# EAGLE library part ACORN-CART-EDGE (library 8Bit_Parts)
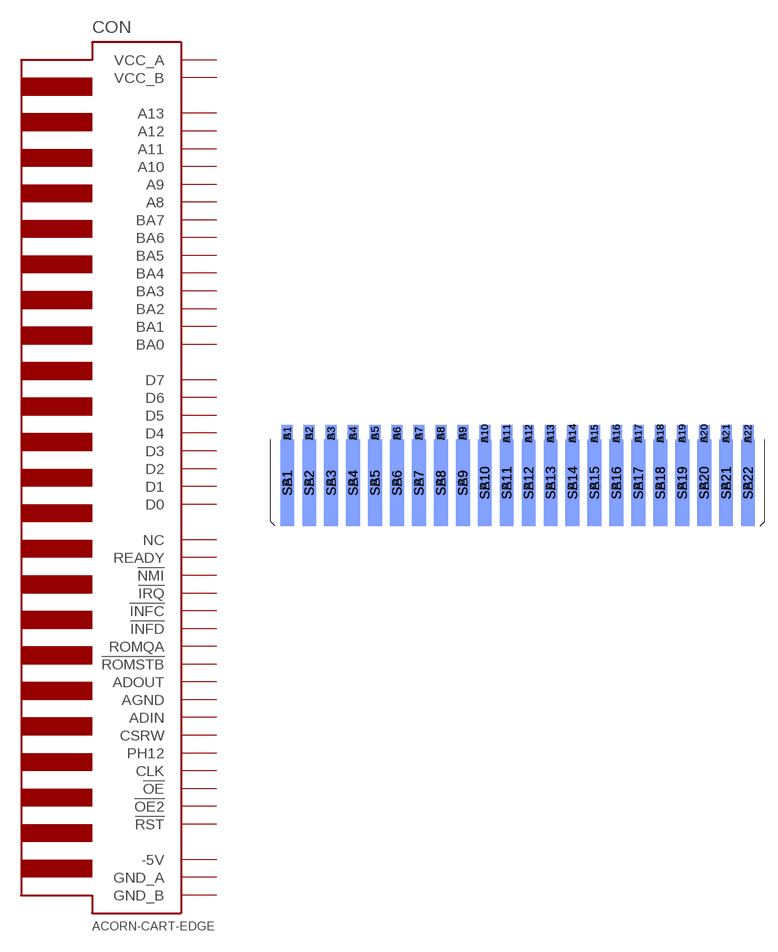
[diagram p13: symbol with the pads of 2X22_EDGE_2.54; footprint 2X22_EDGE_2.54]

Designator prefix CON

## ACORN-CART-EDGE  [2X22_EDGE_2.54]
A1  VCC_A  pwr
A2  !OE
A3  !RST
A4  CSRW
A5  A8  out
A6  A13  out
A7  A12  out
A8  PH12
A9  -5V
A10  NC  nc
A11  READY
A12  !NMI
A13  !IRQ
A14  !INFC
A15  !INFD
A16  ROMQA
A17  CLK
A18  !ROMSTB
A19  ADOUT
A20  AGND
A21  ADIN
A22  GND_A
B1  VCC_B  pwr
B2  A10  out
B3  D3
B4  A11  out
B5  A9  out
B6  D7
B7  D6
B8  D5
B9  D4
B10  !OE2
B11  BA7  out
B12  BA6  out
B13  BA5  out
B14  BA4  out
B15  BA3  out
B16  BA2  out
B17  BA1  out
B18  BA0  out
B19  D0
B20  D2
B21  D1
B22  GND_B

## Footprint 2X22_EDGE_2.54 (pad centres in mm)
smd 1.27 x 1.905: A1 -25.4,3.175; A2 -22.86,3.175; A3 -20.32,3.175; A4 -17.78,3.175; A5 -15.24,3.175; A6 -12.7,3.175; A7 -10.16,3.175; A8 -7.62,3.175; A9 -5.08,3.175; A10 -2.54,3.175; A11 0,3.175; A12 2.54,3.175; A13 5.08,3.175; A14 7.62,3.175; A15 10.16,3.175; A16 12.7,3.175; A17 15.24,3.175; A18 17.78,3.175; A19 20.32,3.175; A20 22.86,3.175; A21 25.4,3.175; A22 27.94,3.175
smd 1.27 x 1.905 bottom: B1 -25.4,3.175; B2 -22.86,3.175; B3 -20.32,3.175; B4 -17.78,3.175; B5 -15.24,3.175; B6 -12.7,3.175; B7 -10.16,3.175; B8 -7.62,3.175; B9 -5.08,3.175; B10 -2.54,3.175; B11 0,3.175; B12 2.54,3.175; B13 5.08,3.175; B14 7.62,3.175; B15 10.16,3.175; B16 12.7,3.175; B17 15.24,3.175; B18 17.78,3.175; B19 20.32,3.175; B20 22.86,3.175; B21 25.4,3.175; B22 27.94,3.175
smd 1.6 x 10 bottom: SA1 -25.4,-2.54; SA2 -22.86,-2.54; SA3 -20.32,-2.54; SA4 -17.78,-2.54; SA5 -15.24,-2.54; SA6 -12.7,-2.54; SA7 -10.16,-2.54; SA8 -7.62,-2.54; SA9 -5.08,-2.54; SA10 -2.54,-2.54; SA11 0,-2.54; SA12 2.54,-2.54; SA13 5.08,-2.54; SA14 7.62,-2.54; SA15 10.16,-2.54; SA16 12.7,-2.54; SA17 15.24,-2.54; SA18 17.78,-2.54; SA19 20.32,-2.54; SA20 22.86,-2.54; SA21 25.4,-2.54; SA22 27.94,-2.54
smd 1.6 x 10: SB1 -25.4,-2.54; SB2 -22.86,-2.54; SB3 -20.32,-2.54; SB4 -17.78,-2.54; SB5 -15.24,-2.54; SB6 -12.7,-2.54; SB7 -10.16,-2.54; SB8 -7.62,-2.54; SB9 -5.08,-2.54; SB10 -2.54,-2.54; SB11 0,-2.54; SB12 2.54,-2.54; SB13 5.08,-2.54; SB14 7.62,-2.54; SB15 10.16,-2.54; SB16 12.7,-2.54; SB17 15.24,-2.54; SB18 17.78,-2.54; SB19 20.32,-2.54; SB20 22.86,-2.54; SB21 25.4,-2.54; SB22 27.94,-2.54